# Altium schematic symbol library RT9187.SchLib: 2 symbols
Pins are listed as number, name and electrical type; pins without a type are passive.

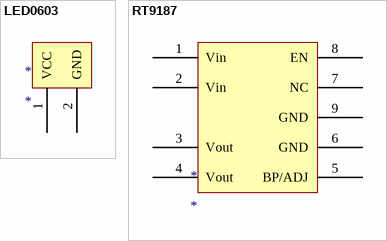
[diagram p0: symbols LED0603 to RT9187]

## LED0603
designator *
footprint LED0603
pins: 1 VCC, 2 GND

## RT9187
designator *
footprint RT9187
pins: 1 Vin, 2 Vin, 3 Vout, 4 Vout, 5 BP/ADJ, 6 GND, 7 NC, 8 EN, 9 GND